# Altium footprint library FadigasLibPCB.PcbLib: 32 footprints (part 2 of 2)
Each footprint in its own frame and in the unit in brackets; x right, y up, seen from the top. Pads: shape width x height; smd on the part's side, far side on the other; paste and mask are expansions set on the pad; w line width, h text height; cw(c..) or ccw(c..) is an arc to the next point about the centre after c.
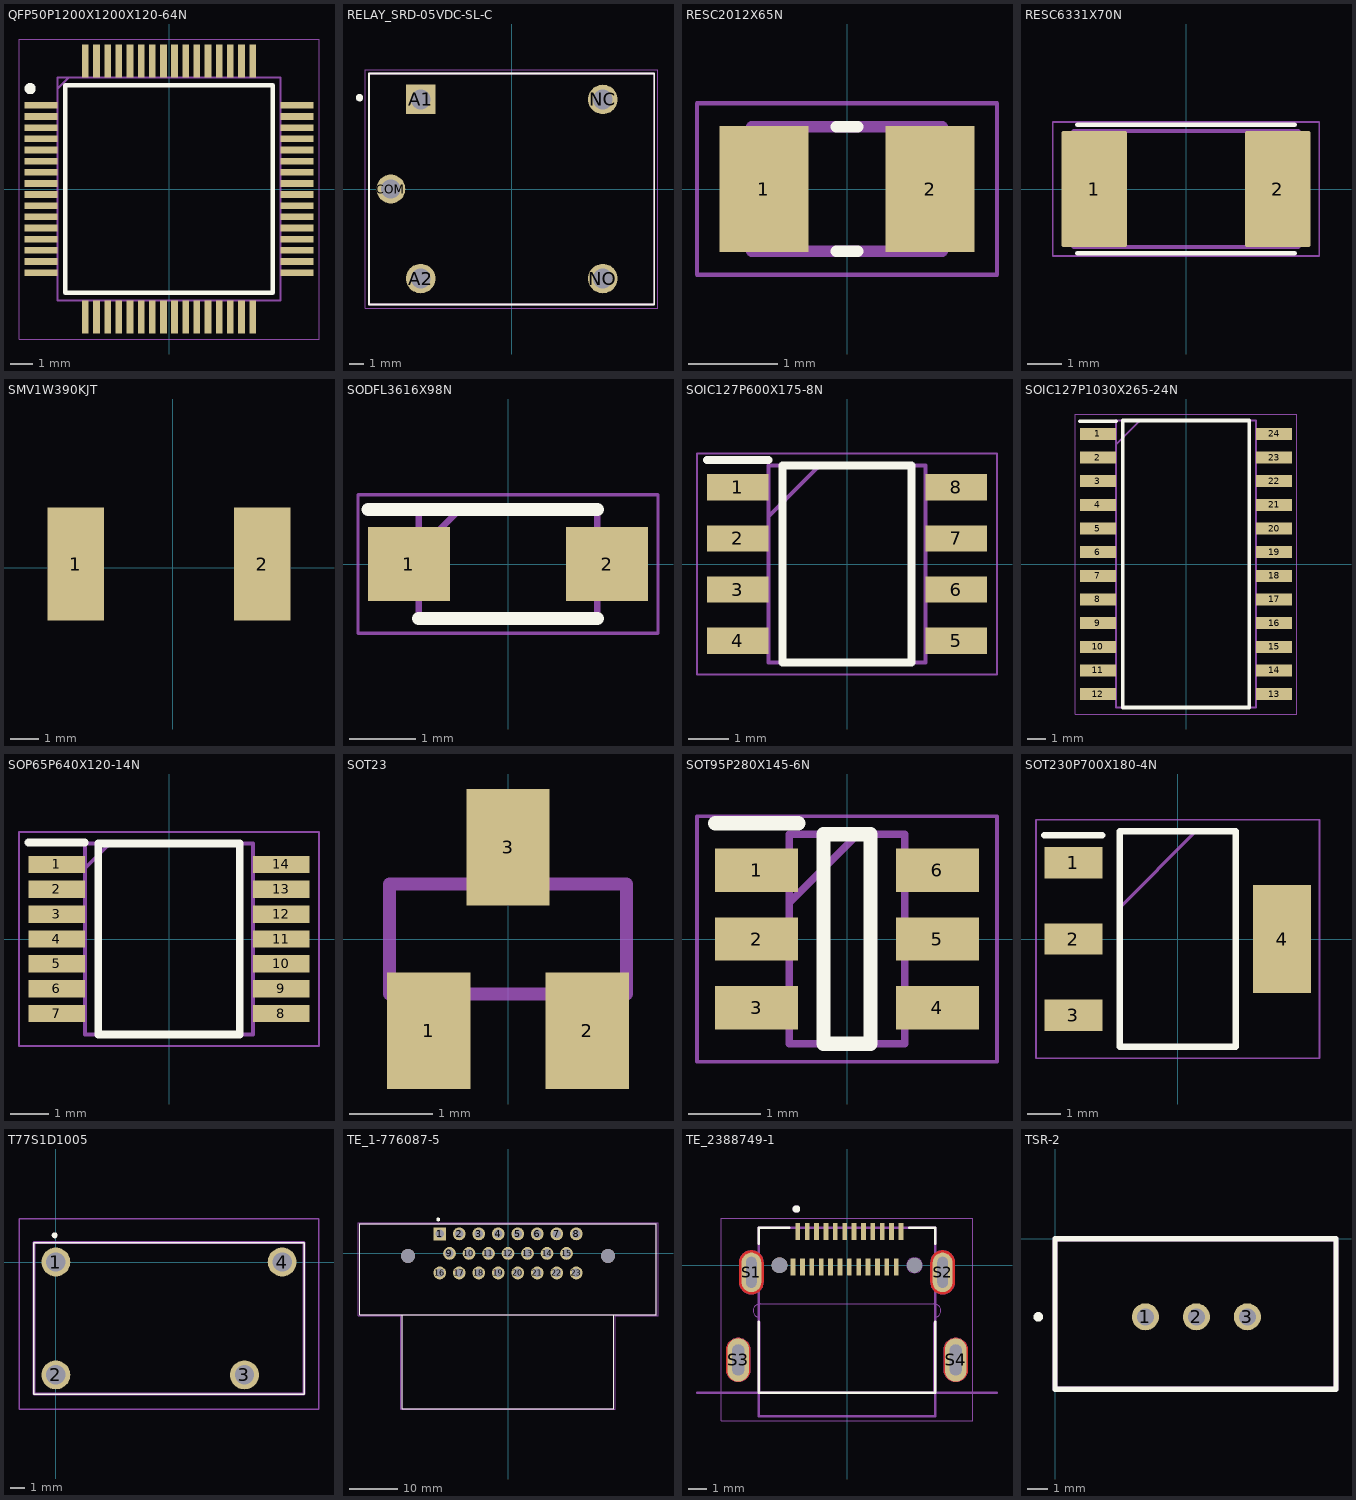
[diagram p1: the footprints below, top view; thin cyan lines are the x and y axes]

## QFP50P1200X1200X120-64N [mm]
pads (64):
  rect 1.475x0.3 smd: 1(-5.738,3.75) 2(-5.738,3.25) 3(-5.738,2.75) 4(-5.738,2.25) 5(-5.738,1.75) 6(-5.738,1.25) 7(-5.738,0.75) 8(-5.738,0.25) 9(-5.738,-0.25) 10(-5.738,-0.75) 11(-5.738,-1.25) 12(-5.738,-1.75) 13(-5.738,-2.25) 14(-5.738,-2.75) 15(-5.738,-3.25) 16(-5.738,-3.75) 33(5.738,-3.75) 34(5.738,-3.25) 35(5.738,-2.75) 36(5.738,-2.25) 37(5.738,-1.75) 38(5.738,-1.25) 39(5.738,-0.75) 40(5.738,-0.25) 41(5.738,0.25) 42(5.738,0.75) 43(5.738,1.25) 44(5.738,1.75) 45(5.738,2.25) 46(5.738,2.75) 47(5.738,3.25) 48(5.738,3.75)
  rect 0.3x1.475 smd: 17(-3.75,-5.738) 18(-3.25,-5.738) 19(-2.75,-5.738) 20(-2.25,-5.738) 21(-1.75,-5.738) 22(-1.25,-5.738) 23(-0.75,-5.738) 24(-0.25,-5.738) 25(0.25,-5.738) 26(0.75,-5.738) 27(1.25,-5.738) 28(1.75,-5.738) 29(2.25,-5.738) 30(2.75,-5.738) 31(3.25,-5.738) 32(3.75,-5.738) 49(3.75,5.738) 50(3.25,5.738) 51(2.75,5.738) 52(2.25,5.738) 53(1.75,5.738) 54(1.25,5.738) 55(0.75,5.738) 56(0.25,5.738) 57(-0.25,5.738) 58(-0.75,5.738) 59(-1.25,5.738) 60(-1.75,5.738) 61(-2.25,5.738) 62(-2.75,5.738) 63(-3.25,5.738) 64(-3.75,5.738)
Top Overlay:
  circle w0.25: c-6.225,4.5 r0.125
  lines w0.2: -4.65,-4.65 -4.65,4.65 4.65,4.65 4.65,-4.65 -4.65,-4.65
Mechanical 13:
  lines w0.1: -5,4.5 -4.5,5 ; -5,-5 -5,5 5,5 5,-5 -5,-5
Mechanical 15:
  lines w0.05: -6.725,-6.725 -6.725,6.725 6.725,6.725 6.725,-6.725 -6.725,-6.725
3D body "PIC32MK1024MCM064-I_PT.stp": height 1.2, standoff 0, extent -6,-6 6,6

## RELAY_SRD-05VDC-SL-C [mm]
pads (5):
  rect 1.98x1.98 / inner round 1.98 / far side rect 1.98x1.98 hole 1.32: A1(-6.1,6)
  round 1.98 hole 1.32: A2(-6.1,-6) NC(6.1,6) NO(6.1,-6)
  round 1.935 hole 1.29: COM(-8.1,0)
Top Overlay:
  circle w0.3: c-10.2,6.119 r0.1
  lines w0.127: -9.55,-7.75 -9.55,7.75 9.55,7.75 9.55,-7.75 -9.55,-7.75
Mechanical 13:
  lines w0.127: -9.55,-7.75 -9.55,7.75 9.55,7.75 9.55,-7.75 -9.55,-7.75
Mechanical 15:
  lines w0.05: -9.8,-8 -9.8,8 9.8,8 9.8,-8 -9.8,-8
3D body "step_temp.STEP": height 15.8, standoff -3, extent -9.6,-7.8 9.6,7.8

## RESC2012X65N [mm]
pads (2):
  rect 1x1.42 smd: 1(-0.935,0) 2(0.935,0)
Top Overlay:
  lines w0.127: -0.12,-0.7 0.12,-0.7 ; -0.12,0.7 0.12,0.7
Mechanical 13:
  lines w0.127: -1.07,-0.7 -1.07,0.7 1.07,0.7 1.07,-0.7 -1.07,-0.7
Mechanical 15:
  lines w0.05: -1.685,-0.962 -1.685,0.962 1.685,0.962 1.685,-0.962 -1.685,-0.962
3D body "ERJ-U06F1690V.STEP": height 0.6, standoff 0, extent -1,-0.625 1,0.625

## RESC6331X70N [mm]
pads (2):
  rrect7% 1.9x3.37 smd: 1(-2.66,0) 2(2.66,0)
Top Overlay:
  lines w0.127: -3.15,-1.865 3.15,-1.865 ; -3.15,1.865 3.15,1.865
Mechanical 13:
  lines w0.127: -3.25,-1.68 -3.25,1.68 3.25,1.68 3.25,-1.68 -3.25,-1.68
Mechanical 15:
  lines w0.05: -3.86,-1.94 -3.86,1.94 3.86,1.94 3.86,-1.94 -3.86,-1.94

## SMV1W390KJT [mm]
pads (2):
  rect 2x4 smd: 1(-3.429,0.127) 2(3.175,0.127)
3D body "SMV1W390KJT_STEP.stp": height 3.55, standoff 0, extent -4.077,-1.873 3.823,2.127

## SODFL3616X98N [mm]
pads (2):
  rect 1.24x1.12 smd: 1(-1.5,0) 2(1.5,0)
Top Overlay:
  lines w0.2: -2.12,0.825 1.35,0.825 ; -1.35,-0.825 1.35,-0.825
Mechanical 13:
  lines w0.1: -1.35,0.205 -0.73,0.825 ; -1.35,-0.825 1.35,-0.825 1.35,0.825 -1.35,0.825 -1.35,-0.825
Mechanical 15:
  lines w0.05: -2.27,-1.05 2.27,-1.05 2.27,1.05 -2.27,1.05 -2.27,-1.05
3D body "MBR140SFT3G.stp": height 0.98, standoff 0, extent -1.8,-0.825 1.8,0.825

## SOIC127P600X175-8N [mm]
pads (8):
  rect 1.525x0.65 smd: 1(-2.712,1.905) 2(-2.712,0.635) 3(-2.712,-0.635) 4(-2.712,-1.905) 5(2.712,-1.905) 6(2.712,-0.635) 7(2.712,0.635) 8(2.712,1.905)
Top Overlay:
  lines w0.2: -3.475,2.58 -1.95,2.58 ; -1.6,-2.45 -1.6,2.45 1.6,2.45 1.6,-2.45 -1.6,-2.45
Mechanical 13:
  lines w0.1: -1.95,1.18 -0.68,2.45 ; -1.95,-2.45 -1.95,2.45 1.95,2.45 1.95,-2.45 -1.95,-2.45
Mechanical 15:
  lines w0.05: -3.725,-2.75 -3.725,2.75 3.725,2.75 3.725,-2.75 -3.725,-2.75
3D body "NE555DR.stp": height 1.75, standoff 0, extent -3,-2.45 3,2.45

## SOIC127P1030X265-24N [mm]
pads (24):
  rect 1.95x0.65 smd: 1(-4.725,6.985) 2(-4.725,5.715) 3(-4.725,4.445) 4(-4.725,3.175) 5(-4.725,1.905) 6(-4.725,0.635) 7(-4.725,-0.635) 8(-4.725,-1.905) 9(-4.725,-3.175) 10(-4.725,-4.445) 11(-4.725,-5.715) 12(-4.725,-6.985) 13(4.725,-6.985) 14(4.725,-5.715) 15(4.725,-4.445) 16(4.725,-3.175) 17(4.725,-1.905) 18(4.725,-0.635) 19(4.725,0.635) 20(4.725,1.905) 21(4.725,3.175) 22(4.725,4.445) 23(4.725,5.715) 24(4.725,6.985)
Top Overlay:
  lines w0.2: -5.7,7.66 -3.75,7.66 ; -3.4,-7.7 -3.4,7.7 3.4,7.7 3.4,-7.7 -3.4,-7.7
Mechanical 13:
  lines w0.1: -3.75,6.43 -2.48,7.7 ; -3.75,-7.7 -3.75,7.7 3.75,7.7 3.75,-7.7 -3.75,-7.7
Mechanical 15:
  lines w0.05: -5.95,-8.05 -5.95,8.05 5.95,8.05 5.95,-8.05 -5.95,-8.05
3D body "CD74HC4067M.stp": height 1.75, standoff 0, extent -5.165,-7.7 5.165,7.7

## SOP65P640X120-14N [mm]
pads (14):
  rect 1.475x0.45 smd: 1(-2.938,1.95) 2(-2.938,1.3) 3(-2.938,0.65) 4(-2.938,0) 5(-2.938,-0.65) 6(-2.938,-1.3) 7(-2.938,-1.95) 8(2.938,-1.95) 9(2.938,-1.3) 10(2.938,-0.65) 11(2.938,0) 12(2.938,0.65) 13(2.938,1.3) 14(2.938,1.95)
Top Overlay:
  lines w0.2: -3.675,2.525 -2.2,2.525 ; -1.85,-2.5 -1.85,2.5 1.85,2.5 1.85,-2.5 -1.85,-2.5
Mechanical 13:
  lines w0.1: -2.2,1.85 -1.55,2.5 ; -2.2,-2.5 -2.2,2.5 2.2,2.5 2.2,-2.5 -2.2,-2.5
Mechanical 15:
  lines w0.05: -3.925,-2.8 -3.925,2.8 3.925,2.8 3.925,-2.8 -3.925,-2.8
3D body "MCP2221A-I_ST.stp": height 1.2, standoff 0, extent -3.2,-2.5 3.2,2.5

## SOT23 [mm]
pads (3):
  rect 1x1.4 smd: 1(-0.95,-1.1) 2(0.95,-1.1) 3(0,1.1)
Mechanical 13:
  region: 0.229,0.712 -0.229,0.712 -0.229,1.295 0.229,1.295
  region: 1.168,-1.296 0.712,-1.296 0.712,-0.711 1.168,-0.711
  region: -0.711,-1.298 -1.17,-1.298 -1.17,-0.711 -0.711,-0.711
  lines w0.152: -1.422,-0.66 1.422,-0.66 1.422,0.66 -1.422,0.66 -1.422,-0.66
3D body "BC847B--3DModel-STEP-56544.STEP": height 1.1, standoff 0, extent -1.435,-1.238 1.465,1.262

## SOT95P280X145-6N [mm]
pads (6):
  rect 1.15x0.6 smd: 1(-1.25,0.95) 2(-1.25,0) 3(-1.25,-0.95) 4(1.25,-0.95) 5(1.25,0) 6(1.25,0.95)
Top Overlay:
  lines w0.2: -1.825,1.6 -0.675,1.6 ; -0.325,-1.45 -0.325,1.45 0.325,1.45 0.325,-1.45 -0.325,-1.45
Mechanical 13:
  lines w0.1: -0.8,0.5 0.15,1.45 ; -0.8,-1.45 -0.8,1.45 0.8,1.45 0.8,-1.45 -0.8,-1.45
Mechanical 15:
  lines w0.05: -2.075,-1.7 -2.075,1.7 2.075,1.7 2.075,-1.7 -2.075,-1.7
3D body "MCP6C02T-050E_CHY.stp": height 1.45, standoff 0, extent -1.4,-1.45 1.4,1.45

## SOT230P700X180-4N [mm]
pads (4):
  rect 1.75x0.95 smd: 1(-3.15,2.3) 2(-3.15,0) 3(-3.15,-2.3)
  rect 1.75x3.25 smd: 4(3.15,0)
Top Overlay:
  lines w0.2: -4.025,3.125 -2.275,3.125 ; -1.75,-3.25 -1.75,3.25 1.75,3.25 1.75,-3.25 -1.75,-3.25
Mechanical 13:
  lines w0.1: -1.75,0.95 0.55,3.25 ; -1.75,-3.25 -1.75,3.25 1.75,3.25 1.75,-3.25 -1.75,-3.25
Mechanical 15:
  lines w0.05: -4.275,-3.6 -4.275,3.6 4.275,3.6 4.275,-3.6 -4.275,-3.6
3D body "MIC5239-3.3YS-TR.stp": height 1.8, standoff 0, extent -3.5,-3.25 3.5,3.25

## T77S1D1005 [mm]
pads (4):
  round 1.95 hole 1.3: 1(0,0) 2(0,-7.6) 3(12.7,-7.6) 4(15.24,0)
Top Overlay:
  lines w0.1: -1.48,-8.9 -1.48,1.3 16.72,1.3 16.72,-8.9 -1.48,-8.9
  lines w0.2: -0.18,1.8 cw(c-0.08,1.8) 0.02,1.8 cw(c-0.08,1.8) -0.18,1.8
Mechanical 13:
  lines w0.2: -1.48,-8.9 -1.48,1.3 16.72,1.3 16.72,-8.9 -1.48,-8.9
Mechanical 15:
  lines w0.1: -2.48,-9.9 -2.48,2.9 17.72,2.9 17.72,-9.9 -2.48,-9.9
3D body "T77S1D10-05.stp": height 15.5, standoff -5, extent -1.48,-8.9 16.72,1.3

## TE_1-776087-5 [mm]
pads (25):
  rect 2.625x2.625 hole 1.75: 1(-14,4)
  round 2.625 hole 1.75: 2(-10,4) 3(-6,4) 4(-2,4) 5(2,4) 6(6,4) 7(10,4) 8(14,4) 9(-12,0) 10(-8,0) 11(-4,0) 12(0,0) 13(4,0) 14(8,0) 15(12,0) 16(-14,-4) 17(-10,-4) 18(-6,-4) 19(-2,-4) 20(2,-4) 21(6,-4) 22(10,-4) 23(14,-4)
  round 2.85 hole 2.85 unplated: ""(-20.5,-0.5) ""(20.5,-0.5)
Top Overlay:
  circle w0.4: c-14.3,6.95 r0.2
  lines w0.127: -21.7,-12.55 -21.7,-31.85 21.7,-31.85 21.7,-12.55 ; -21.7,-12.55 -30.4,-12.55 -30.4,6.05 30.4,6.05 30.4,-12.55 21.7,-12.55 ; -21.7,-12.55 21.7,-12.55
Mechanical 13:
  circle w0.4: c-14.05,3.95 r0.2
  lines w0.127: -21.7,-12.55 -21.7,-31.85 21.7,-31.85 21.7,-12.55 ; -21.7,-12.55 -30.4,-12.55 -30.4,6.05 30.4,6.05 30.4,-12.55 21.7,-12.55 ; -21.7,-12.55 21.7,-12.55
  text "VALUE" at -21.925,-34.238 h1.78
  text "NAME" at -30.415,6.603 h1.78
Mechanical 15:
  lines w0.05: -30.75,-12.75 -30.75,6.25 30.75,6.25 30.75,-12.75 22,-12.75 22,-32 -22,-32 -22,-12.75 -30.75,-12.75
3D body "1-776087-5.stp": height 28.75, standoff -3.35, extent -30.309,-31.808 30.491,5.992

## TE_2388749-1 [mm]
height 2.88
pads (30):
  rect 0.254x0.9 smd: A1(-2.625,1.8) A2(-2.125,1.8) A3(-1.625,1.8) A4(-1.125,1.8) A5(-0.625,1.8) A6(-0.125,1.8) A7(0.375,1.8) A8(0.875,1.8) A9(1.375,1.8) A10(1.875,1.8) A11(2.375,1.8) A12(2.875,1.8) B1(2.625,-0.1) B2(2.125,-0.1) B3(1.625,-0.1) B4(1.125,-0.1) B5(0.625,-0.1) B6(0.125,-0.1) B7(-0.375,-0.1) B8(-0.875,-0.1) B9(-1.375,-0.1) B10(-1.875,-0.1) B11(-2.375,-0.1) B12(-2.875,-0.1)
  oval 1.058x2.116 hole 0.55 slot 1.65 at 90 deg mask+0: S1(-5.1,-0.38) S2(5.1,-0.38)
  oval 1.158x2.316 hole 0.65 slot 1.65 at 90 deg mask+0: S3(-5.8,-5.05) S4(5.8,-5.05)
  round 0.84 hole 0.84 unplated: ""(-3.6,0)
  round 0.78 hole 0.78 unplated: ""(3.6,0)
Top Layer:
  region: 5.868,-3.879 5.935,-3.889 6.001,-3.907 6.064,-3.931 6.125,-3.962 6.182,-3.999 6.235,-4.042 6.283,-4.09 6.326,-4.143 6.363,-4.2 6.394,-4.261 6.418,-4.324 6.436,-4.39 6.446,-4.457 6.45,-4.525 6.45,-5.575 6.446,-5.643 6.436,-5.71 6.418,-5.776 6.394,-5.839 6.363,-5.9 6.326,-5.957 6.283,-6.01 6.235,-6.058 6.182,-6.101 6.125,-6.138 6.064,-6.169 6.001,-6.193 5.935,-6.211 5.868,-6.221 5.8,-6.225 5.732,-6.221 5.665,-6.211 5.599,-6.193 5.536,-6.169 5.475,-6.138 5.418,-6.101 5.365,-6.058 5.317,-6.01 5.274,-5.957 5.237,-5.9 5.206,-5.839 5.182,-5.776 5.164,-5.71 5.154,-5.643 5.15,-5.575 5.15,-4.525 5.154,-4.457 5.164,-4.39 5.182,-4.324 5.206,-4.261 5.237,-4.2 5.274,-4.143 5.317,-4.09 5.365,-4.042 5.418,-3.999 5.475,-3.962 5.536,-3.931 5.599,-3.907 5.665,-3.889 5.732,-3.879 5.8,-3.875
  region: -5.732,-3.879 -5.665,-3.889 -5.599,-3.907 -5.536,-3.931 -5.475,-3.962 -5.418,-3.999 -5.365,-4.042 -5.317,-4.09 -5.274,-4.143 -5.237,-4.2 -5.206,-4.261 -5.182,-4.324 -5.164,-4.39 -5.154,-4.457 -5.15,-4.525 -5.15,-5.575 -5.154,-5.643 -5.164,-5.71 -5.182,-5.776 -5.206,-5.839 -5.237,-5.9 -5.274,-5.957 -5.317,-6.01 -5.365,-6.058 -5.418,-6.101 -5.475,-6.138 -5.536,-6.169 -5.599,-6.193 -5.665,-6.211 -5.732,-6.221 -5.8,-6.225 -5.868,-6.221 -5.935,-6.211 -6.001,-6.193 -6.064,-6.169 -6.125,-6.138 -6.182,-6.101 -6.235,-6.058 -6.283,-6.01 -6.326,-5.957 -6.363,-5.9 -6.394,-5.839 -6.418,-5.776 -6.436,-5.71 -6.446,-5.643 -6.45,-5.575 -6.45,-4.525 -6.446,-4.457 -6.436,-4.39 -6.418,-4.324 -6.394,-4.261 -6.363,-4.2 -6.326,-4.143 -6.283,-4.09 -6.235,-4.042 -6.182,-3.999 -6.125,-3.962 -6.064,-3.931 -6.001,-3.907 -5.935,-3.889 -5.868,-3.879 -5.8,-3.875
  region: 5.168,0.791 5.235,0.781 5.301,0.763 5.364,0.739 5.425,0.708 5.482,0.671 5.535,0.628 5.583,0.58 5.626,0.527 5.663,0.47 5.694,0.409 5.718,0.346 5.736,0.28 5.746,0.213 5.75,0.145 5.75,-0.905 5.746,-0.973 5.736,-1.04 5.718,-1.106 5.694,-1.169 5.663,-1.23 5.626,-1.287 5.583,-1.34 5.535,-1.388 5.482,-1.431 5.425,-1.468 5.364,-1.499 5.301,-1.523 5.235,-1.541 5.168,-1.551 5.1,-1.555 5.032,-1.551 4.965,-1.541 4.899,-1.523 4.836,-1.499 4.775,-1.468 4.718,-1.431 4.665,-1.388 4.617,-1.34 4.574,-1.287 4.537,-1.23 4.506,-1.169 4.482,-1.106 4.464,-1.04 4.454,-0.973 4.45,-0.905 4.45,0.145 4.454,0.213 4.464,0.28 4.482,0.346 4.506,0.409 4.537,0.47 4.574,0.527 4.617,0.58 4.665,0.628 4.718,0.671 4.775,0.708 4.836,0.739 4.899,0.763 4.965,0.781 5.032,0.791 5.1,0.795
  region: -5.032,0.791 -4.965,0.781 -4.899,0.763 -4.836,0.739 -4.775,0.708 -4.718,0.671 -4.665,0.628 -4.617,0.58 -4.574,0.527 -4.537,0.47 -4.506,0.409 -4.482,0.346 -4.464,0.28 -4.454,0.213 -4.45,0.145 -4.45,-0.905 -4.454,-0.973 -4.464,-1.04 -4.482,-1.106 -4.506,-1.169 -4.537,-1.23 -4.574,-1.287 -4.617,-1.34 -4.665,-1.388 -4.718,-1.431 -4.775,-1.468 -4.836,-1.499 -4.899,-1.523 -4.965,-1.541 -5.032,-1.551 -5.1,-1.555 -5.168,-1.551 -5.235,-1.541 -5.301,-1.523 -5.364,-1.499 -5.425,-1.468 -5.482,-1.431 -5.535,-1.388 -5.583,-1.34 -5.626,-1.287 -5.663,-1.23 -5.694,-1.169 -5.718,-1.106 -5.736,-1.04 -5.746,-0.973 -5.75,-0.905 -5.75,0.145 -5.746,0.213 -5.736,0.28 -5.718,0.346 -5.694,0.409 -5.663,0.47 -5.626,0.527 -5.583,0.58 -5.535,0.628 -5.482,0.671 -5.425,0.708 -5.364,0.739 -5.301,0.763 -5.235,0.781 -5.168,0.791 -5.1,0.795
Bottom Layer:
  region: 5.868,-3.879 5.935,-3.889 6.001,-3.907 6.064,-3.931 6.125,-3.962 6.182,-3.999 6.235,-4.042 6.283,-4.09 6.326,-4.143 6.363,-4.2 6.394,-4.261 6.418,-4.324 6.436,-4.39 6.446,-4.457 6.45,-4.525 6.45,-5.575 6.446,-5.643 6.436,-5.71 6.418,-5.776 6.394,-5.839 6.363,-5.9 6.326,-5.957 6.283,-6.01 6.235,-6.058 6.182,-6.101 6.125,-6.138 6.064,-6.169 6.001,-6.193 5.935,-6.211 5.868,-6.221 5.8,-6.225 5.732,-6.221 5.665,-6.211 5.599,-6.193 5.536,-6.169 5.475,-6.138 5.418,-6.101 5.365,-6.058 5.317,-6.01 5.274,-5.957 5.237,-5.9 5.206,-5.839 5.182,-5.776 5.164,-5.71 5.154,-5.643 5.15,-5.575 5.15,-4.525 5.154,-4.457 5.164,-4.39 5.182,-4.324 5.206,-4.261 5.237,-4.2 5.274,-4.143 5.317,-4.09 5.365,-4.042 5.418,-3.999 5.475,-3.962 5.536,-3.931 5.599,-3.907 5.665,-3.889 5.732,-3.879 5.8,-3.875
  region: -5.732,-3.879 -5.665,-3.889 -5.599,-3.907 -5.536,-3.931 -5.475,-3.962 -5.418,-3.999 -5.365,-4.042 -5.317,-4.09 -5.274,-4.143 -5.237,-4.2 -5.206,-4.261 -5.182,-4.324 -5.164,-4.39 -5.154,-4.457 -5.15,-4.525 -5.15,-5.575 -5.154,-5.643 -5.164,-5.71 -5.182,-5.776 -5.206,-5.839 -5.237,-5.9 -5.274,-5.957 -5.317,-6.01 -5.365,-6.058 -5.418,-6.101 -5.475,-6.138 -5.536,-6.169 -5.599,-6.193 -5.665,-6.211 -5.732,-6.221 -5.8,-6.225 -5.868,-6.221 -5.935,-6.211 -6.001,-6.193 -6.064,-6.169 -6.125,-6.138 -6.182,-6.101 -6.235,-6.058 -6.283,-6.01 -6.326,-5.957 -6.363,-5.9 -6.394,-5.839 -6.418,-5.776 -6.436,-5.71 -6.446,-5.643 -6.45,-5.575 -6.45,-4.525 -6.446,-4.457 -6.436,-4.39 -6.418,-4.324 -6.394,-4.261 -6.363,-4.2 -6.326,-4.143 -6.283,-4.09 -6.235,-4.042 -6.182,-3.999 -6.125,-3.962 -6.064,-3.931 -6.001,-3.907 -5.935,-3.889 -5.868,-3.879 -5.8,-3.875
  region: -5.032,0.791 -4.965,0.781 -4.899,0.763 -4.836,0.739 -4.775,0.708 -4.718,0.671 -4.665,0.628 -4.617,0.58 -4.574,0.527 -4.537,0.47 -4.506,0.409 -4.482,0.346 -4.464,0.28 -4.454,0.213 -4.45,0.145 -4.45,-0.905 -4.454,-0.973 -4.464,-1.04 -4.482,-1.106 -4.506,-1.169 -4.537,-1.23 -4.574,-1.287 -4.617,-1.34 -4.665,-1.388 -4.718,-1.431 -4.775,-1.468 -4.836,-1.499 -4.899,-1.523 -4.965,-1.541 -5.032,-1.551 -5.1,-1.555 -5.168,-1.551 -5.235,-1.541 -5.301,-1.523 -5.364,-1.499 -5.425,-1.468 -5.482,-1.431 -5.535,-1.388 -5.583,-1.34 -5.626,-1.287 -5.663,-1.23 -5.694,-1.169 -5.718,-1.106 -5.736,-1.04 -5.746,-0.973 -5.75,-0.905 -5.75,0.145 -5.746,0.213 -5.736,0.28 -5.718,0.346 -5.694,0.409 -5.663,0.47 -5.626,0.527 -5.583,0.58 -5.535,0.628 -5.482,0.671 -5.425,0.708 -5.364,0.739 -5.301,0.763 -5.235,0.781 -5.168,0.791 -5.1,0.795
  region: 5.168,0.791 5.235,0.781 5.301,0.763 5.364,0.739 5.425,0.708 5.482,0.671 5.535,0.628 5.583,0.58 5.626,0.527 5.663,0.47 5.694,0.409 5.718,0.346 5.736,0.28 5.746,0.213 5.75,0.145 5.75,-0.905 5.746,-0.973 5.736,-1.04 5.718,-1.106 5.694,-1.169 5.663,-1.23 5.626,-1.287 5.583,-1.34 5.535,-1.388 5.482,-1.431 5.425,-1.468 5.364,-1.499 5.301,-1.523 5.235,-1.541 5.168,-1.551 5.1,-1.555 5.032,-1.551 4.965,-1.541 4.899,-1.523 4.836,-1.499 4.775,-1.468 4.718,-1.431 4.665,-1.388 4.617,-1.34 4.574,-1.287 4.537,-1.23 4.506,-1.169 4.482,-1.106 4.464,-1.04 4.454,-0.973 4.45,-0.905 4.45,0.145 4.454,0.213 4.464,0.28 4.482,0.346 4.506,0.409 4.537,0.47 4.574,0.527 4.617,0.58 4.665,0.628 4.718,0.671 4.775,0.708 4.836,0.739 4.899,0.763 4.965,0.781 5.032,0.791 5.1,0.795
Top Overlay:
  circle w0.2: c-2.7,3 r0.1
  lines w0.127: -4.7,-3 -4.7,-6.8 4.7,-6.8 4.7,-3 ; -4.7,1.145 -4.7,2 -3.072,2 ; 3.322,2 4.7,2 4.7,1.145
Top Solder:
  drawing of 4 lines, arcs and shapes, not listed
Bottom Solder:
  drawing of 4 lines, arcs and shapes, not listed
Mechanical 1:
  lines w0: -4.812,-2.75 cw(c-5,-3.075) -4.625,-3.075 -4.625,-6.8 4.625,-6.8 4.625,-3.075 cw(c5,-3.075) 4.812,-2.75 ccw(c4.625,-2.425) 4.625,-2.05 -4.625,-2.05 ccw(c-4.625,-2.425) -4.812,-2.75 ; 3.57,-0.39 cw(c3.57,0) 3.57,0.39 3.63,0.39 cw(c3.63,0) 3.63,-0.39 3.57,-0.39
Mechanical 13:
  circle w0.2: c-2.7,3 r0.1
  lines w0.127: -8,-6.8 8,-6.8 ; -4.7,-8.05 4.7,-8.05 4.7,2 -4.7,2 -4.7,-8.05
  text "PCB EDGE" at 7,-6.5 h0.81
Mechanical 15:
  lines w0.05: -6.7,-8.3 6.7,-8.3 6.7,2.5 -6.7,2.5 -6.7,-8.3
3D body "step_temp.STEP": height 1.78, standoff -2.1, extent -5.95,0 5.95,10.14

## TSR-2 [mm]
pads (3):
  round 1.35 hole 0.85: 1(4.5,-3.89) 2(7.04,-3.89) 3(9.58,-3.89)
Top Overlay:
  circle w0.254: c-0.842,-3.896 r0.113
  lines w0.254: 0,-7.5 0,0 14,0 14,-7.5 0,-7.5
Mechanical 13:
  lines w0.254: 0,-7.5 14,-7.5 14,0 0,0 0,-7.5
3D body "TSR_2-24120.stp": height 10, standoff -4.2, extent -0.01,-7.42 13.99,0.08